# Altium schematic symbol library analog_RF+misc.SchLib: 20 symbols
Pins are listed as number, name and electrical type; pins without a type are passive.

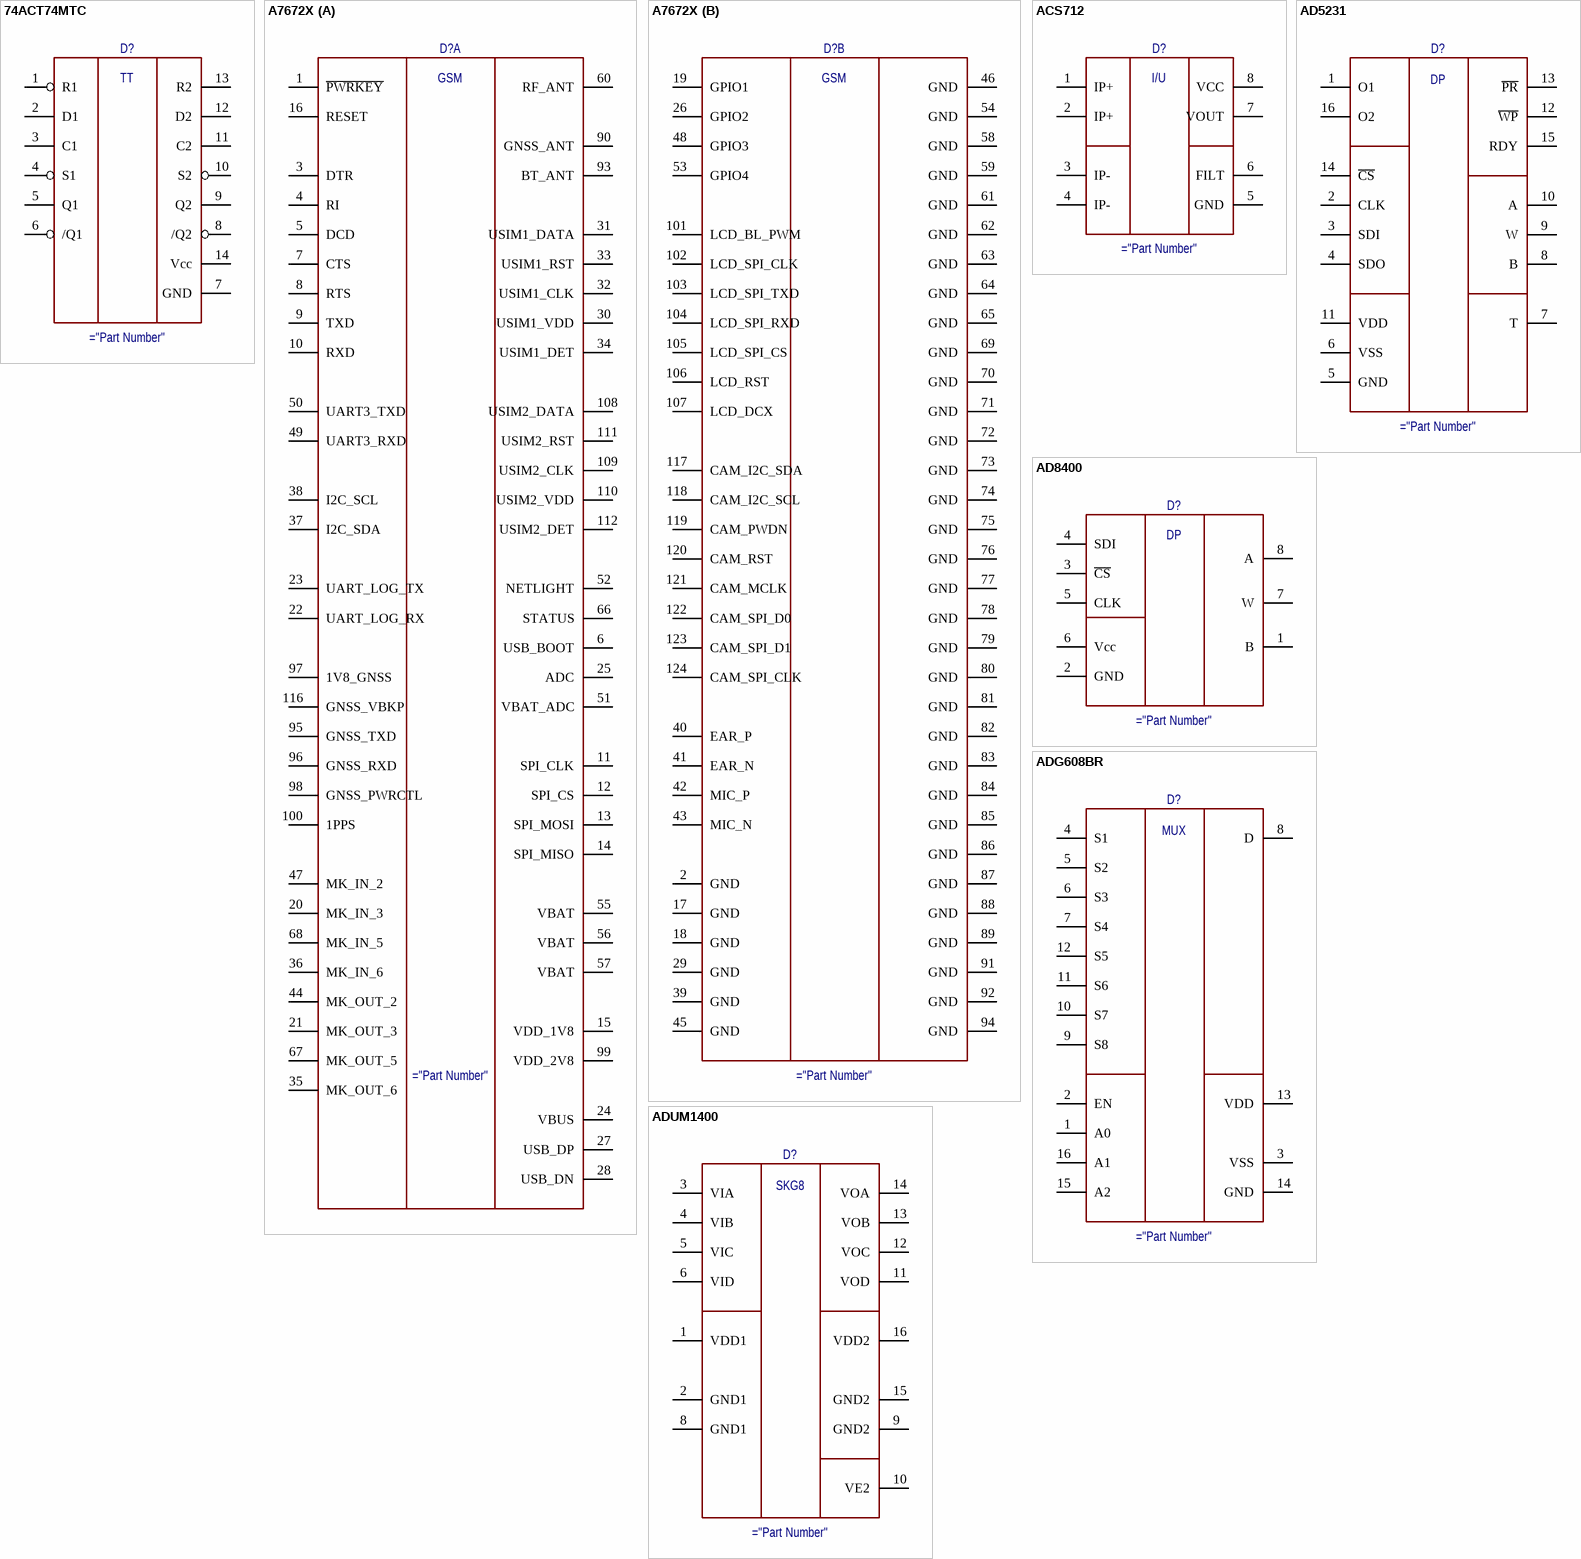
[diagram p0: symbols 74ACT74MTC to ADUM1400]

## 74ACT74MTC
designator D?
D-trigger 2-bit
pins: 1 R1, 2 D1, 3 C1, 4 S1, 5 Q1, 6 /Q1, 7 GND, 8 /Q2, 9 Q2, 10 S2, 11 C2, 12 D2, 13 R2, 14 Vcc
text: TT

## A7672X
designator D?
LPWA Module LTE Cat 1
part A pins: 1 ~{PWRKEY}, 3 DTR, 4 RI, 5 DCD, 6 USB_BOOT, 7 CTS, 8 RTS, 9 TXD, 10 RXD, 11 SPI_CLK, 12 SPI_CS, 13 SPI_MOSI, 14 SPI_MISO, 15 VDD_1V8, 16 RESET, 20 MK_IN_3, 21 MK_OUT_3, 22 UART_LOG_RX, 23 UART_LOG_TX, 24 VBUS, 25 ADC, 27 USB_DP, 28 USB_DN, 30 USIM1_VDD, 31 USIM1_DATA, 32 USIM1_CLK, 33 USIM1_RST, 34 USIM1_DET, 35 MK_OUT_6, 36 MK_IN_6, 37 I2C_SDA, 38 I2C_SCL, 44 MK_OUT_2, 47 MK_IN_2, 49 UART3_RXD, 50 UART3_TXD, 51 VBAT_ADC, 52 NETLIGHT, 55 VBAT, 56 VBAT, 57 VBAT, 60 RF_ANT, 66 STATUS, 67 MK_OUT_5, 68 MK_IN_5, 90 GNSS_ANT, 93 BT_ANT, 95 GNSS_TXD, 96 GNSS_RXD, 97 1V8_GNSS, 98 GNSS_PWRCTL, 99 VDD_2V8, 100 1PPS, 108 USIM2_DATA, 109 USIM2_CLK, 110 USIM2_VDD, 111 USIM2_RST, 112 USIM2_DET, 113 NC hidden, 114 NC hidden, 115 NC hidden, 116 GNSS_VBKP
part B pins: 2 GND, 17 GND, 18 GND, 19 GPIO1, 26 GPIO2, 29 GND, 39 GND, 40 EAR_P, 41 EAR_N, 42 MIC_P, 43 MIC_N, 45 GND, 46 GND, 48 GPIO3, 53 GPIO4, 54 GND, 58 GND, 59 GND, 61 GND, 62 GND, 63 GND, 64 GND, 65 GND, 69 GND, 70 GND, 71 GND, 72 GND, 73 GND, 74 GND, 75 GND, 76 GND, 77 GND, 78 GND, 79 GND, 80 GND, 81 GND, 82 GND, 83 GND, 84 GND, 85 GND, 86 GND, 87 GND, 88 GND, 89 GND, 91 GND, 92 GND, 94 GND, 101 LCD_BL_PWM, 102 LCD_SPI_CLK, 103 LCD_SPI_TXD, 104 LCD_SPI_RXD, 105 LCD_SPI_CS, 106 LCD_RST, 107 LCD_DCX, 117 CAM_I2C_SDA, 118 CAM_I2C_SCL, 119 CAM_PWDN, 120 CAM_RST, 121 CAM_MCLK, 122 CAM_SPI_D0, 123 CAM_SPI_D1, 124 CAM_SPI_CLK
part A text: GSM
part B text: GSM

## ACS712
designator D?
Current Sensor
pins: 1 IP+, 2 IP+, 3 IP-, 4 IP-, 5 GND, 6 FILT, 7 VOUT, 8 VCC
text: I/U

## AD5231
designator D?
Potentiometer 10-bit
pins: 1 O1, 2 CLK, 3 SDI, 4 SDO, 5 GND, 6 VSS, 7 T, 8 B, 9 W, 10 A, 11 VDD, 12 ~{WP}, 13 ~{PR}, 14 ~{CS}, 15 RDY, 16 O2
text: DP

## AD8400
designator D?
Potentiometer
pins: 1 B, 2 GND, 3 ~{CS}, 4 SDI, 5 CLK, 6 Vcc, 7 W, 8 A
text: DP

## ADG608BR
designator D?
Analog Mux 8ch
pins: 1 A0, 2 EN, 3 VSS, 4 S1, 5 S2, 6 S3, 7 S4, 8 D, 9 S8, 10 S7, 11 S6, 12 S5, 13 VDD, 14 GND, 15 A2, 16 A1
text: MUX

## ADUM1400
designator D?
Isolator 4ch
pins: 1 VDD1, 2 GND1, 3 VIA, 4 VIB, 5 VIC, 6 VID, 7 NC hidden, 8 GND1, 9 GND2, 10 VE2, 11 VOD, 12 VOC, 13 VOB, 14 VOA, 15 GND2, 16 VDD2
text: SKG8

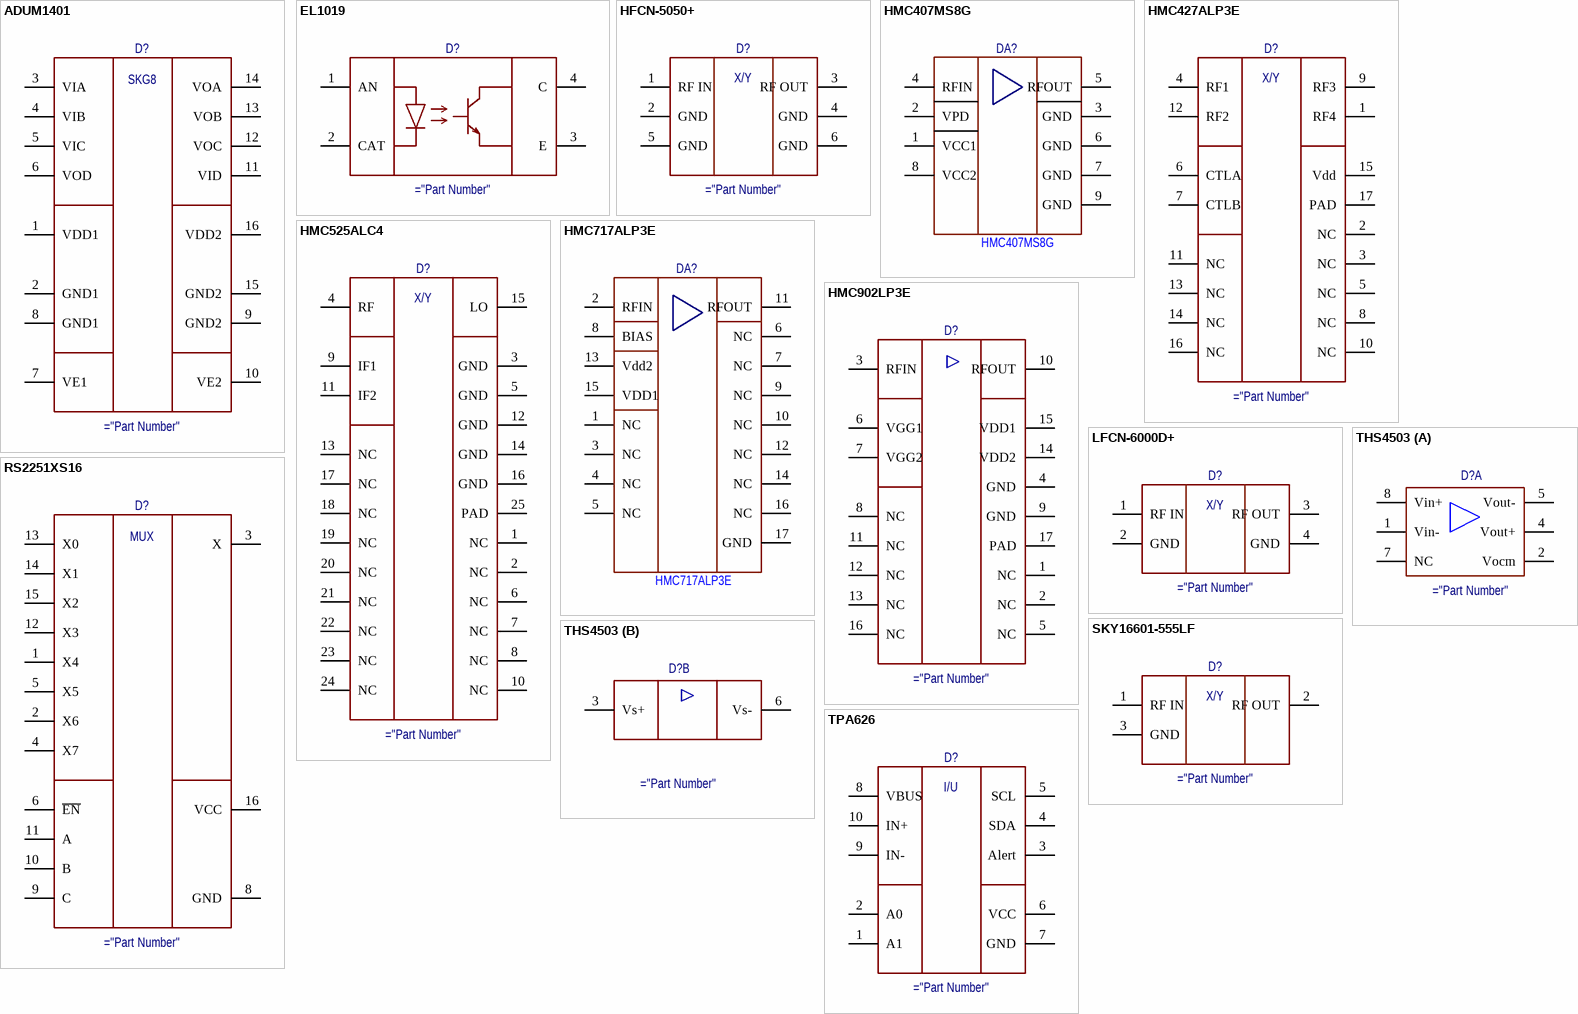
[diagram p1: symbols ADUM1401 to TPA626]

## ADUM1401
designator D?
Isolator 4ch
pins: 1 VDD1, 2 GND1, 3 VIA, 4 VIB, 5 VIC, 6 VOD, 7 VE1, 8 GND1, 9 GND2, 10 VE2, 11 VID, 12 VOC, 13 VOB, 14 VOA, 15 GND2, 16 VDD2
text: SKG8

## EL1019
designator D?
Opto
pins: 1 AN, 2 CAT, 3 E, 4 C

## HFCN-5050+
designator D?
High Pass Filter
pins: 1 RF IN, 2 GND, 3 RF OUT, 4 GND, 5 GND, 6 GND
text: X/Y

## HMC407MS8G
designator DA?
POWER AMPLIFIER, 5 - 7 GHz  Gain: 15 dB / Saturated Power: +29 dBm / 28% PAE / Supply Voltage: +5V; Manufactured: ANALOG DEVICED; PartNumber: HMC407MS8G; ComponentLink1Description: DataSheet; ComponentLink1URL: https://www.micro-semiconductor.com/datasheet/21-HMC407MS8GETR.pdf
footprint HMC407MS8G
pins: 1 VCC1, 2 VPD, 3 GND, 4 RFIN, 5 RFOUT, 6 GND, 7 GND, 8 VCC2, 9 GND

## HMC427ALP3E
designator D?
RF Transfer Switch
pins: 1 RF4, 2 NC, 3 NC, 4 RF1, 5 NC, 6 CTLA, 7 CTLB, 8 NC, 9 RF3, 10 NC, 11 NC, 12 RF2, 13 NC, 14 NC, 15 Vdd, 16 NC, 17 PAD
text: X/Y

## HMC525ALC4
designator D?
RF I/Q Mixer
pins: 1 NC, 2 NC, 3 GND, 4 RF, 5 GND, 6 NC, 7 NC, 8 NC, 9 IF1, 10 NC, 11 IF2, 12 GND, 13 NC, 14 GND, 15 LO, 16 GND, 17 NC, 18 NC, 19 NC, 20 NC, 21 NC, 22 NC, 23 NC, 24 NC, 25 PAD
text: X/Y

## HMC717ALP3E
designator DA?
LOW NOISE AMPLIFIER, 4.8 - 6.0 GHz              Noise Figure: 1.1 dB / Gain: 14.5 dB / Output IP3: +29.5 dBm / Single Supply: +3V to +5V / 16 Lead 3x3mm QFN; Manufacturer: Analog Devices; PartNumber: HMC717ALP3E; ComponentLink1Description: DataSheet; ComponentLink1URL: *
footprint QFN50P300X300X100_HS-17N (QFN, 16-Leads, Body 3,00x3,00mm, Pitch 0,50mm, Thermal Pad 1,73x1,73mm, IPC Medium Density)
pins: 1 NC, 2 RFIN, 3 NC, 4 NC, 5 NC, 6 NC, 7 NC, 8 BIAS, 9 NC, 10 NC, 11 RFOUT, 12 NC, 13 Vdd2, 14 NC, 15 VDD1, 16 NC, 17 GND

## HMC902LP3E
designator D?
RF Low Noise Amplifier
pins: 1 NC, 2 NC, 3 RFIN, 4 GND, 5 NC, 6 VGG1, 7 VGG2, 8 NC, 9 GND, 10 RFOUT, 11 NC, 12 NC, 13 NC, 14 VDD2, 15 VDD1, 16 NC, 17 PAD

## LFCN-6000D+
designator D?
Low Pass Filter
pins: 1 RF IN, 2 GND, 3 RF OUT, 4 GND
text: X/Y

## RS2251XS16
designator D?
Analog Mux 8ch
pins: 1 X4, 2 X6, 3 X, 4 X7, 5 X5, 6 ~{EN}, 7 NC hidden, 8 GND, 9 C, 10 B, 11 A, 12 X3, 13 X0, 14 X1, 15 X2, 16 VCC
text: MUX

## SKY16601-555LF
designator D?
Integrated Single-Stage PIN Diode Limiter / Module 0.50 to 6.0 GHz
pins: 1 RF IN, 2 RF OUT, 3 GND
text: X/Y

## THS4503
designator D?
Low-Distortion Fully Differential Amplifiers
part A pins: 1 Vin-, 2 Vocm, 4 Vout+, 5 Vout-, 7 NC, 8 Vin+
part B pins: 3 Vs+, 6 Vs-

## TPA626
designator D?
Current Sensor
pins: 1 A1, 2 A0, 3 Alert, 4 SDA, 5 SCL, 6 VCC, 7 GND, 8 VBUS, 9 IN-, 10 IN+
text: I/U